# Altium schematic symbol library DIODE,Schottky,100V,8A,SMD.Schlib: 1 symbol
Pins are listed as number, name and electrical type; pins without a type are passive.

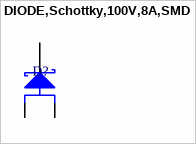
[diagram p0: symbol DIODE,Schottky,100V,8A,SMD]

## DIODE,Schottky,100V,8A,SMD
designator D?
pins: 1 A1, 2 A2, K